# Altium schematic symbol library SnapEDAsch.SchLib: 1 symbol
Pins are listed as number, name and electrical type; pins without a type are passive.

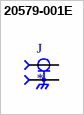
[diagram p0: symbol 20579-001E]

## 20579-001E
designator J
The M.2 industry standard,support up to 12 GHz; MF: I-PEX; MP: 20579-001E; Value: *; Package: None; Price: None; Availability: Unavailable; SnapEDA_Link: https://www.snapeda.com/parts/20579-001E/I-PEX/view-part/4300957/?ref=snap
footprint IPEX_20579-001E
pins: 1 SIGNAL, G1 GROUND, G2 GROUND, G3 GROUND